# Altium schematic symbol library lab03.SchLib: 11 symbols
Pins are listed as number, name and electrical type; pins without a type are passive.

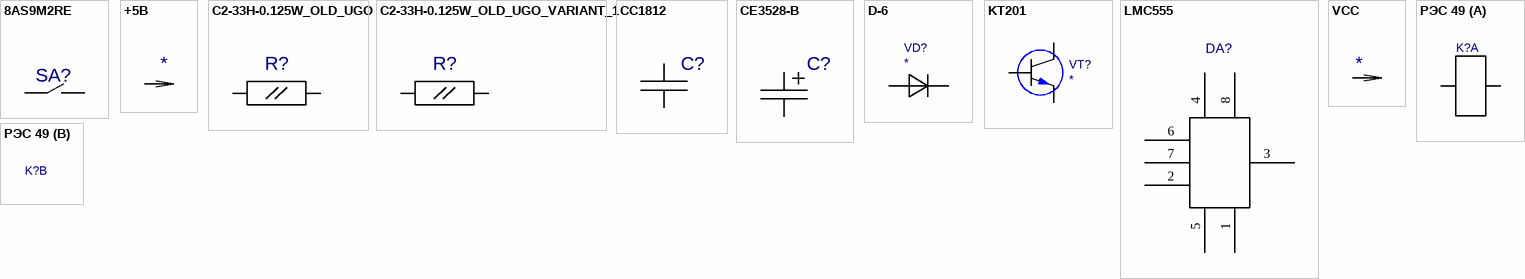
[diagram p0: symbols 8AS9M2RE to РЭС 49]

## 8AS9M2RE
designator SA?  (value not drawn)
Value: *
footprint 8AS9M2RE
pins: 1, 2

## +5B
designator PWR?  (value not drawn)
Value: *
pins: 1 +5B (power)

## C2-33H-0.125W_OLD_UGO
designator R?  (value not drawn)
Value: *
footprint C2-33H-0.125W
pins: 1, 2

## C2-33H-0.125W_OLD_UGO_VARIANT_1
designator R?, comment C2-33H-0.125W_OLD_UGO  (value not drawn)
C2-33H-0.125W_OLD_UGO_VARIANT_1; Value: *
footprint C2-33H-0.125W
pins: 1, 2

## CC1812
designator C?  (value not drawn)
Value: *
footprint CC1812
pins: 1, 2

## CE3528-B
designator C?  (value not drawn)
Value: *
footprint CE3528-B
pins: 1 i/o, 2 i/o1

## D-6
designator VD?  (value not drawn)
Value: *
footprint D6
pins: 1, 2

## KT201
designator VT?  (value not drawn)
Value: *
footprint TO-18
pins: 1, 2, 3

## LMC555
designator DA?  (value not drawn)
Value: *
footprint LMC555
pins: 1, 2, 3, 4, 5, 6, 7, 8

## VCC
designator PWR?  (value not drawn)
Value: *
pins: 1 VCC (power)

## РЭС 49
designator K?  (value not drawn)
Value: *
footprint RES49
part A pins: 4, 5